# Altium integrated library TI Power Management Power Modules.IntLib: 831 symbols (part 29 of 44)
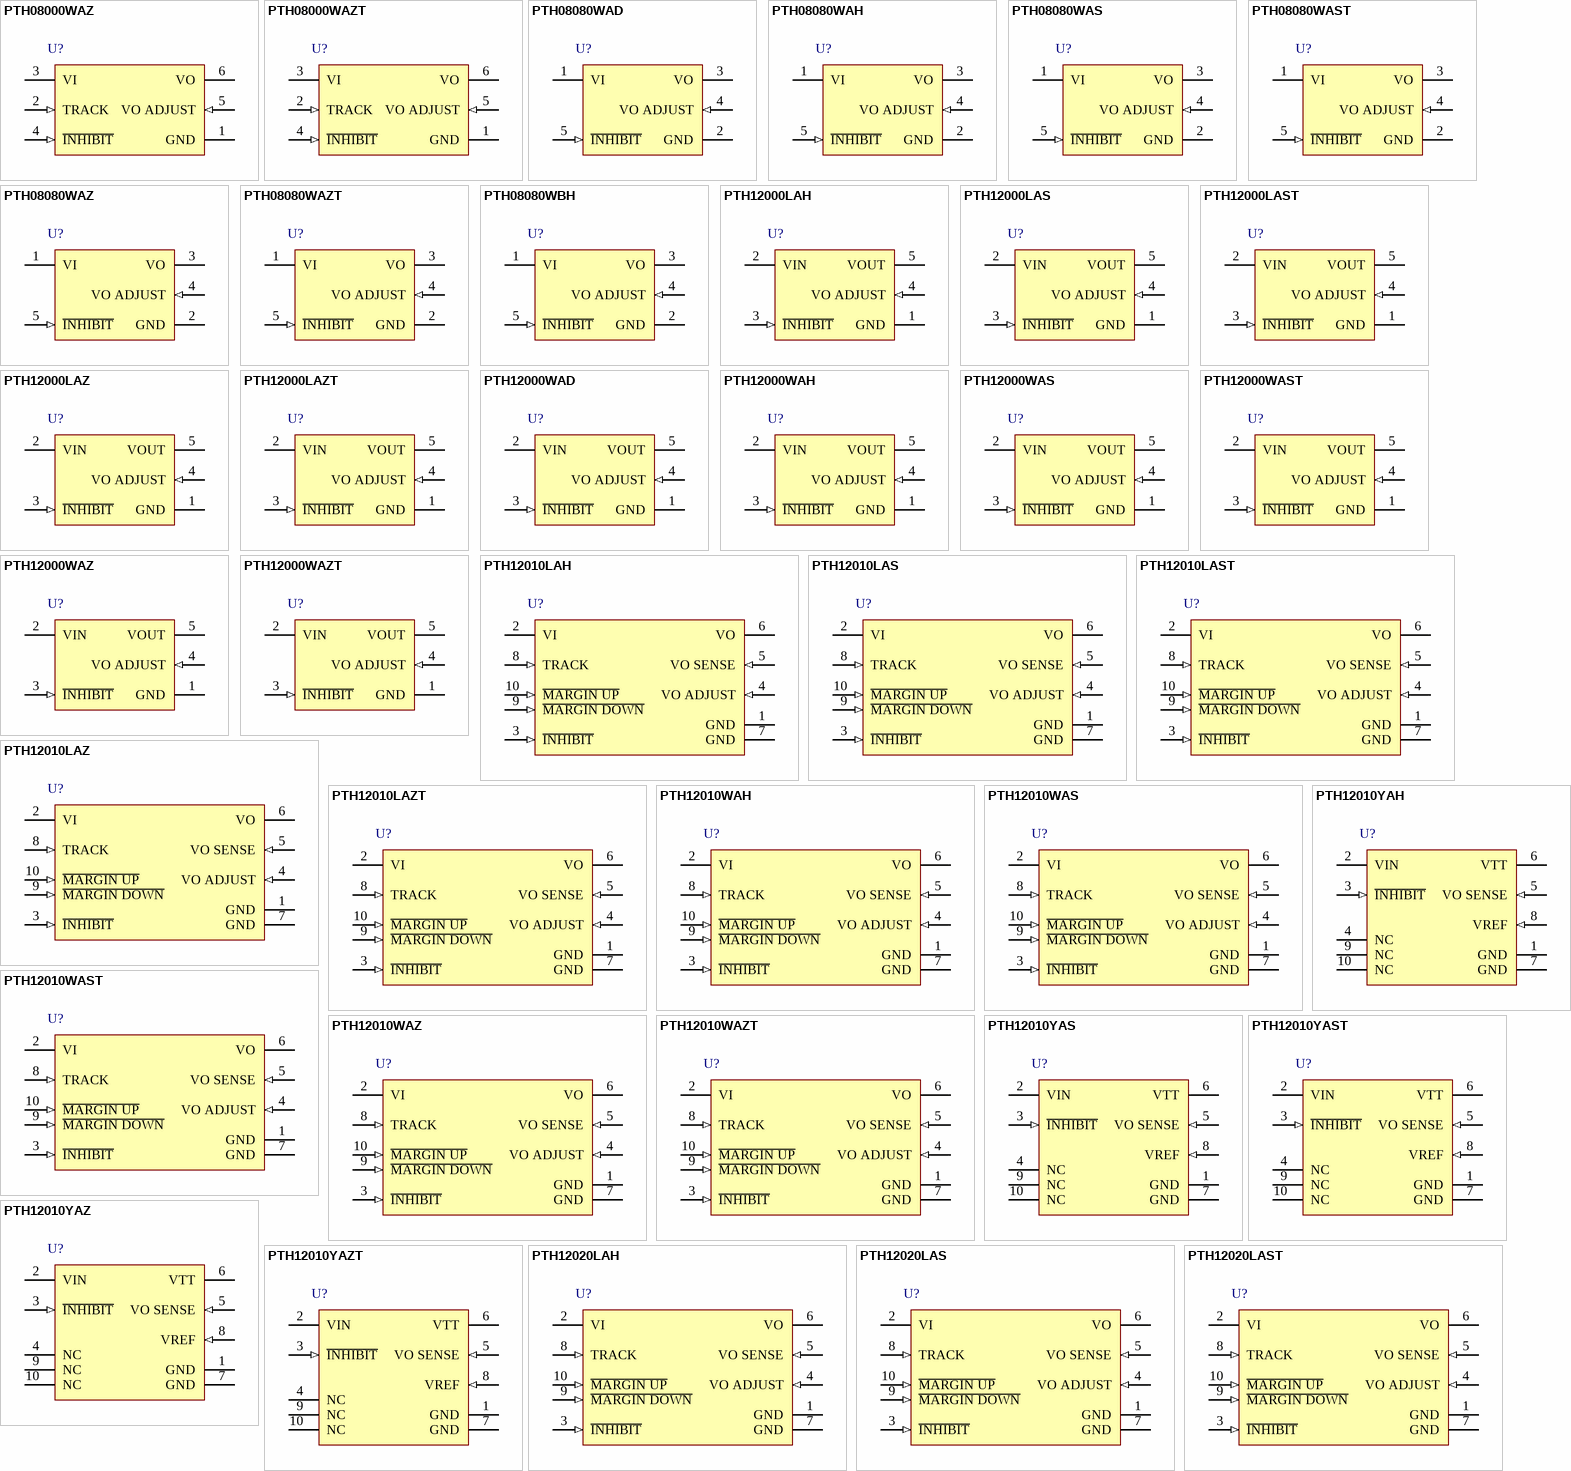
[diagram p51: symbols PTH08000WAZ to PTH12020LAST]

## PTH08080WAZT
designator U?
2.25 A, 4.5 to 18 V Input Wide Adjust Miniature Power Module, -40 to 85 degC, 5-pin Module (EUG5), Pb-Free (RoHS); Manufacturer: Texas Instruments; PartNumber: PTH08080WAZT; Iout(Max)(A): 2.25; Regulated Outputs(#): 1; SubFamily: Non-Isolated POL; Vin(Max)(V): 18; Vin(Min)(V): 4.5; VO Adjustable: TRUE; Vout(Max)(V): 5.5; Vout(Min)(V): 0.9; DatasheetVersion: SLTS235C; PackageVersion: 4206428/A; PackageReference: EUG5; PackageDescription: 5-Pin Plastic Special Shape, Body 12.7 x 15.24 mm; Supplier 1: Digi-Key; Supplier Part Number 1: 296-26311-2-ND; Supplier 2: Digi-Key; Supplier Part Number 2: 296-26311-1-ND; Supplier 3: Digi-Key; Supplier Part Number 3: 296-26311-6-ND; Supplier 4: Farnell; Supplier Part Number 4: 1180200; Supplier 5: Farnell; Supplier Part Number 5: 1180200RL; Supplier 6: Newark; Supplier Part Number 6: 26M2084; Supplier 7: Newark; Supplier Part Number 7: 37K0731; Supplier 8: Mouser; Supplier Part Number 8: 595-PTH08080WAZT; Eco-Plan: Pb-Free (RoHS); Mounting Technology: Surface Mount; ComponentLink1Description: Manufacturer URL; ComponentLink1URL: http://www.ti.com/; ComponentLink2Description: Datasheet; ComponentLink2URL: http://www.ti.com/general/docs/lit/getliterature.tsp?genericPartNumber=PTH08080W&fileType=pdf; ComponentLink3Description: Package Specification; ComponentLink3URL: http://www.ti.com/litv/pdf/mpds190; ComponentLink4Description: URL Link1; ComponentLink4URL: Samples URL:http://www.ti.com/product/pth08080w#samples
footprint TI-EUG5_V (Module, 5-Leads, Body 15.24x12.7mm)
pins: 1 VI (power) "The positive input voltage power node to the module, which is referenced to common GND.", 2 GND (power) "This is the common ground connection for the VI and VO power connections. It is also the 0-Vdc reference for the Inhibit and VO Adjust control inputs.", 3 VO (power) "The regulated positive power output with respect to the GND node.", 4 VO ADJUST (in) "A 1% resistor must be connected between this pin and GND (pin 1) to set the output voltage of the module higher than 0.9 V. If left open-circuit, the output voltage defaults to this value. The temperature stability of the (See Datasheet)", 5 ~{INHIBIT} (in) "The Inhibit pin is an open-collector/drain-negative logic input that is referenced to GND. Applying a low-level ground signal to this input disables the module's output. When the Inhibit control is active, the input current (See Datasheet)"

## PTH08080WBH
designator U?
2.25 A, 4.5 to 18 V Input Wide Adjust Miniature Power Module, -40 to 85 degC, 5-pin Module (EUF5), Pb-Free (RoHS); Manufacturer: Texas Instruments; PartNumber: PTH08080WBH; Iout(Max)(A): 2.25; Regulated Outputs(#): 1; SubFamily: Non-Isolated POL; Vin(Max)(V): 18; Vin(Min)(V): 4.5; VO Adjustable: TRUE; Vout(Max)(V): 5.5; Vout(Min)(V): 0.9; DatasheetVersion: SLTS235C; PackageVersion: 4206427/A; PackageReference: EUF5; PackageDescription: 5-Pin Plastic Special Shape, Body 12.7 x 15.24 mm; Supplier 1: Digi-Key; Supplier Part Number 1: 296-32716-ND; Supplier 2: Mouser; Supplier Part Number 2: 595-PTH08080WBH; Eco-Plan: Pb-Free (RoHS); Mounting Technology: Through Hole; ComponentLink1Description: Manufacturer URL; ComponentLink1URL: http://www.ti.com/; ComponentLink2Description: Datasheet; ComponentLink2URL: http://www.ti.com/general/docs/lit/getliterature.tsp?genericPartNumber=PTH08080W&fileType=pdf; ComponentLink3Description: Package Specification; ComponentLink3URL: http://www.ti.com/lit/ml/mpds189/mpds189.pdf; ComponentLink4Description: URL Link1; ComponentLink4URL: Samples URL:http://www.ti.com/product/tps55010#samples
footprint TI-EUF5_V (Module, 5-Leads, Body 15.24x12.7mm)
pins: 1 VI (power) "The positive input voltage power node to the module, which is referenced to common GND.", 2 GND (power) "This is the common ground connection for the VI and VO power connections. It is also the 0-Vdc reference for the Inhibit and VO Adjust control inputs.", 3 VO (power) "The regulated positive power output with respect to the GND node.", 4 VO ADJUST (in) "A 1% resistor must be connected between this pin and GND (pin 1) to set the output voltage of the module higher than 0.9 V. If left open-circuit, the output voltage defaults to this value. The temperature stability of the (See Datasheet)", 5 ~{INHIBIT} (in) "The Inhibit pin is an open-collector/drain-negative logic input that is referenced to GND. Applying a low-level ground signal to this input disables the module's output. When the Inhibit control is active, the input current (See Datasheet)"

## PTH12000LAH
designator U?
0.8 to 1.8 V, 6 A, 12 V Input Non-Isolated Wide Adjust Module, -40 to 85 degC, 5-pin Module (EUS5), Pb-Free (RoHS); Manufacturer: Texas Instruments; PartNumber: PTH12000LAH; Iout(Max)(A): 6; Regulated Outputs(#): 1; SubFamily: Non-Isolated POL; Vin(Max)(V): 13.2; Vin(Min)(V): 10.8; VO Adjustable: TRUE; Vout(Max)(V): 1.8; Vout(Min)(V): 0.8; DatasheetVersion: SLTS202E; PackageVersion: 4204990-2/C; PackageReference: EUS5; PackageDescription: 5-Pin Plastic Special Shape, Body 12.57 x 18.92 mm; Supplier 1: Digi-Key; Supplier Part Number 1: 296-20446-ND; Supplier 2: Newark; Supplier Part Number 2: 44J0220; Supplier 3: Mouser; Supplier Part Number 3: 595-PTH12000LAH; Eco-Plan: Pb-Free (RoHS); Mounting Technology: Through Hole; ComponentLink1Description: Manufacturer URL; ComponentLink1URL: http://www.ti.com/; ComponentLink2Description: Datasheet; ComponentLink2URL: http://www.ti.com/general/docs/lit/getliterature.tsp?genericPartNumber=PTH12000L&fileType=pdf; ComponentLink3Description: Package Specification; ComponentLink3URL: http://www.ti.com/litv/pdf/mpds139b; ComponentLink4Description: URL Link1; ComponentLink4URL: Samples URL:http://www.ti.com/product/pth12000l#samples
footprint TI-EUS5_V (5-Leads, Plastic Special Shape, Body 18.92x12.57mm)
pins: 1 GND (power) "This is the common ground connection for the‘Vin’ and ‘Vout’ power connections. It is also the 0 VDC reference for the ‘Inhibit’ and ‘Vo Adjust’ control input.", 2 VIN (power) "The positive input voltage power node to the module, which is referenced to common GND.", 3 ~{INHIBIT} (in) "The Inhibit pin is an open-collector/drain negative logic input that is referenced to GND. Applying a lowlevel ground signal to this input disables the module’s output and turns off the output voltage. When the Inhibit (See Datasheet)", 4 VO ADJUST (in) "A 0.1 W 1 % resistor must be directly connected between this pin and the GND pin to set the output voltage to a value higher than 0.9 V. The temperature stability of the resistor should be 100 ppm/degreesC (or better). The (See Datasheet)", 5 VOUT (power) "The regulated positive power output with respect to the GND node."

## PTH12000LAS
designator U?
0.8 to 1.8 V, 6 A, 12 V Input Non-Isolated Wide Adjust Module, -40 to 85 degC, 5-pin Module (EUT5); Manufacturer: Texas Instruments; PartNumber: PTH12000LAS; Eco-Plan: TBD; Iout(Max)(A): 6; Regulated Outputs(#): 1; SubFamily: Non-Isolated POL; Vin(Max)(V): 13.2; Vin(Min)(V): 10.8; VO Adjustable: TRUE; Vout(Max)(V): 1.8; Vout(Min)(V): 0.8; DatasheetVersion: SLTS202E; PackageVersion: 4204991-2/C; PackageReference: EUT5; PackageDescription: 5-Pin Plastic Special Shape, Body 12.57 x 18.92 mm; Supplier 1: Digi-Key; Supplier Part Number 1: 296-20447-ND; Supplier 2: Newark; Supplier Part Number 2: 44J0221; Supplier 3: Mouser; Supplier Part Number 3: 595-PTH12000LAS; Mounting Technology: Surface Mount; ComponentLink1Description: Manufacturer URL; ComponentLink1URL: http://www.ti.com/; ComponentLink2Description: Datasheet; ComponentLink2URL: http://www.ti.com/general/docs/lit/getliterature.tsp?genericPartNumber=PTH12000L&fileType=pdf; ComponentLink3Description: Package Specification; ComponentLink3URL: http://www.ti.com/lit/ml/mpds140b/mpds140b.pdf; ComponentLink4Description: URL Link1; ComponentLink4URL: Samples URL:http://www.ti.com/product/pth12000l#samples
footprint TI-EUT5_V (Module, 5-Leads, Body 18.92x12.57 mm)
pins: 1 GND (power) "This is the common ground connection for the‘Vin’ and ‘Vout’ power connections. It is also the 0 VDC reference for the ‘Inhibit’ and ‘Vo Adjust’ control input.", 2 VIN (power) "The positive input voltage power node to the module, which is referenced to common GND.", 3 ~{INHIBIT} (in) "The Inhibit pin is an open-collector/drain negative logic input that is referenced to GND. Applying a lowlevel ground signal to this input disables the module’s output and turns off the output voltage. When the Inhibit (See Datasheet)", 4 VO ADJUST (in) "A 0.1 W 1 % resistor must be directly connected between this pin and the GND pin to set the output voltage to a value higher than 0.9 V. The temperature stability of the resistor should be 100 ppm/degreesC (or better). The (See Datasheet)", 5 VOUT (power) "The regulated positive power output with respect to the GND node."

## PTH12000LAST
designator U?
0.8 to 1.8 V, 6 A, 12 V Input Non-Isolated Wide Adjust Module, -40 to 85 degC, 5-pin Module (EUT5); Manufacturer: Texas Instruments; PartNumber: PTH12000LAST; Eco-Plan: TBD; Iout(Max)(A): 6; Regulated Outputs(#): 1; SubFamily: Non-Isolated POL; Vin(Max)(V): 13.2; Vin(Min)(V): 10.8; VO Adjustable: TRUE; Vout(Max)(V): 1.8; Vout(Min)(V): 0.8; DatasheetVersion: SLTS202E; PackageVersion: 4204991-2/C; PackageReference: EUT5; PackageDescription: 5-Pin Plastic Special Shape, Body 12.57 x 18.92 mm; Supplier 1: Digi-Key; Supplier Part Number 1: PTH12000LAST-ND; Supplier 2: Mouser; Supplier Part Number 2: 595-PTH12000LAST; Mounting Technology: Surface Mount; ComponentLink1Description: Manufacturer URL; ComponentLink1URL: http://www.ti.com/; ComponentLink2Description: Datasheet; ComponentLink2URL: http://www.ti.com/general/docs/lit/getliterature.tsp?genericPartNumber=PTH12000L&fileType=pdf; ComponentLink3Description: Package Specification; ComponentLink3URL: http://www.ti.com/lit/ml/mpds140b/mpds140b.pdf; ComponentLink4Description: URL Link1; ComponentLink4URL: Samples URL:http://www.ti.com/product/pth12000l#samples
footprint TI-EUT5_V (Module, 5-Leads, Body 18.92x12.57 mm)
pins: 1 GND (power) "This is the common ground connection for the‘Vin’ and ‘Vout’ power connections. It is also the 0 VDC reference for the ‘Inhibit’ and ‘Vo Adjust’ control input.", 2 VIN (power) "The positive input voltage power node to the module, which is referenced to common GND.", 3 ~{INHIBIT} (in) "The Inhibit pin is an open-collector/drain negative logic input that is referenced to GND. Applying a lowlevel ground signal to this input disables the module’s output and turns off the output voltage. When the Inhibit (See Datasheet)", 4 VO ADJUST (in) "A 0.1 W 1 % resistor must be directly connected between this pin and the GND pin to set the output voltage to a value higher than 0.9 V. The temperature stability of the resistor should be 100 ppm/degreesC (or better). The (See Datasheet)", 5 VOUT (power) "The regulated positive power output with respect to the GND node."

## PTH12000LAZ
designator U?
0.8 to 1.8 V, 6 A, 12 V Input Non-Isolated Wide Adjust Module, -40 to 85 degC, 5-pin Module (EUT5), Pb-Free (RoHS); Manufacturer: Texas Instruments; PartNumber: PTH12000LAZ; Iout(Max)(A): 6; Regulated Outputs(#): 1; SubFamily: Non-Isolated POL; Vin(Max)(V): 13.2; Vin(Min)(V): 10.8; VO Adjustable: TRUE; Vout(Max)(V): 1.8; Vout(Min)(V): 0.8; DatasheetVersion: SLTS202E; PackageVersion: 4204991-2/C; PackageReference: EUT5; PackageDescription: 5-Pin Plastic Special Shape, Body 12.57 x 18.92 mm; Supplier 1: Digi-Key; Supplier Part Number 1: 296-20448-ND; Supplier 2: Newark; Supplier Part Number 2: 37K0732; Supplier 3: Mouser; Supplier Part Number 3: 595-PTH12000LAZ; Eco-Plan: Pb-Free (RoHS); Mounting Technology: Surface Mount; ComponentLink1Description: Manufacturer URL; ComponentLink1URL: http://www.ti.com/; ComponentLink2Description: Datasheet; ComponentLink2URL: http://www.ti.com/general/docs/lit/getliterature.tsp?genericPartNumber=PTH12000L&fileType=pdf; ComponentLink3Description: Package Specification; ComponentLink3URL: http://www.ti.com/lit/ml/mpds140b/mpds140b.pdf; ComponentLink4Description: URL Link1; ComponentLink4URL: Samples URL:http://www.ti.com/product/pth12000l#samples
footprint TI-EUT5_V (Module, 5-Leads, Body 18.92x12.57 mm)
pins: 1 GND (power) "This is the common ground connection for the‘Vin’ and ‘Vout’ power connections. It is also the 0 VDC reference for the ‘Inhibit’ and ‘Vo Adjust’ control input.", 2 VIN (power) "The positive input voltage power node to the module, which is referenced to common GND.", 3 ~{INHIBIT} (in) "The Inhibit pin is an open-collector/drain negative logic input that is referenced to GND. Applying a lowlevel ground signal to this input disables the module’s output and turns off the output voltage. When the Inhibit (See Datasheet)", 4 VO ADJUST (in) "A 0.1 W 1 % resistor must be directly connected between this pin and the GND pin to set the output voltage to a value higher than 0.9 V. The temperature stability of the resistor should be 100 ppm/degreesC (or better). The (See Datasheet)", 5 VOUT (power) "The regulated positive power output with respect to the GND node."

## PTH12000LAZT
designator U?
0.8 to 1.8 V, 6 A, 12 V Input Non-Isolated Wide Adjust Module, -40 to 85 degC, 5-pin Module (EUT5), Pb-Free (RoHS); Manufacturer: Texas Instruments; PartNumber: PTH12000LAZT; Iout(Max)(A): 6; Regulated Outputs(#): 1; SubFamily: Non-Isolated POL; Vin(Max)(V): 13.2; Vin(Min)(V): 10.8; VO Adjustable: TRUE; Vout(Max)(V): 1.8; Vout(Min)(V): 0.8; DatasheetVersion: SLTS202E; PackageVersion: 4204991-2/C; PackageReference: EUT5; PackageDescription: 5-Pin Plastic Special Shape, Body 12.57 x 18.92 mm; Supplier 1: Digi-Key; Supplier Part Number 1: PTH12000LAZT-ND; Supplier 2: Newark; Supplier Part Number 2: 37K0733; Supplier 3: Mouser; Supplier Part Number 3: 595-PTH12000LAZT; Eco-Plan: Pb-Free (RoHS); Mounting Technology: Surface Mount; ComponentLink1Description: Manufacturer URL; ComponentLink1URL: http://www.ti.com/; ComponentLink2Description: Datasheet; ComponentLink2URL: http://www.ti.com/general/docs/lit/getliterature.tsp?genericPartNumber=PTH12000L&fileType=pdf; ComponentLink3Description: Package Specification; ComponentLink3URL: http://www.ti.com/lit/ml/mpds140b/mpds140b.pdf; ComponentLink4Description: URL Link1; ComponentLink4URL: Samples URL:http://www.ti.com/product/pth12000l#samples
footprint TI-EUT5_V (Module, 5-Leads, Body 18.92x12.57 mm)
pins: 1 GND (power) "This is the common ground connection for the‘Vin’ and ‘Vout’ power connections. It is also the 0 VDC reference for the ‘Inhibit’ and ‘Vo Adjust’ control input.", 2 VIN (power) "The positive input voltage power node to the module, which is referenced to common GND.", 3 ~{INHIBIT} (in) "The Inhibit pin is an open-collector/drain negative logic input that is referenced to GND. Applying a lowlevel ground signal to this input disables the module’s output and turns off the output voltage. When the Inhibit (See Datasheet)", 4 VO ADJUST (in) "A 0.1 W 1 % resistor must be directly connected between this pin and the GND pin to set the output voltage to a value higher than 0.9 V. The temperature stability of the resistor should be 100 ppm/degreesC (or better). The (See Datasheet)", 5 VOUT (power) "The regulated positive power output with respect to the GND node."

## PTH12000WAD
designator U?
1.2 to 5.5 V 6 A, 12 V Input Non-Isolated Wide Adjust Module, -40 to 85 degC, 5-pin Module (EUS5), Pb-Free (RoHS); Manufacturer: Texas Instruments; PartNumber: PTH12000WAD; Iout(Max)(A): 6; Regulated Outputs(#): 1; SubFamily: Non-Isolated POL; Vin(Max)(V): 13.2; Vin(Min)(V): 10.8; VO Adjustable: TRUE; Vout(Max)(V): 5.5; Vout(Min)(V): 1.2; DatasheetVersion: SLTS202E; PackageVersion: 4204990-2/C; PackageReference: EUS5; PackageDescription: 5-Pin Plastic Special Shape, Body 12.57 x 18.92 mm; Supplier 1: Digi-Key; Supplier Part Number 1: 296-32717-ND; Supplier 2: Farnell; Supplier Part Number 2: 1103297; Supplier 3: Newark; Supplier Part Number 3: 97K7869; Supplier 4: Newark; Supplier Part Number 4: 57K1190; Supplier 5: Mouser; Supplier Part Number 5: 595-PTH12000WAD; Eco-Plan: Pb-Free (RoHS); Mounting Technology: Through Hole; ComponentLink1Description: Manufacturer URL; ComponentLink1URL: http://www.ti.com/; ComponentLink2Description: Datasheet; ComponentLink2URL: http://www.ti.com/general/docs/lit/getliterature.tsp?genericPartNumber=PTH12000W&fileType=pdf; ComponentLink3Description: Package Specification; ComponentLink3URL: http://www.ti.com/litv/pdf/mpds139b; ComponentLink4Description: URL Link1; ComponentLink4URL: Samples URL:http://www.ti.com/product/pth12000w#samples
footprint TI-EUS5_V (5-Leads, Plastic Special Shape, Body 18.92x12.57mm)
pins: 1 GND (power) "This is the common ground connection for the‘Vin’ and ‘Vout’ power connections. It is also the 0 VDC reference for the ‘Inhibit’ and ‘Vo Adjust’ control input.", 2 VIN (power) "The positive input voltage power node to the module, which is referenced to common GND.", 3 ~{INHIBIT} (in) "The Inhibit pin is an open-collector/drain negative logic input that is referenced to GND. Applying a lowlevel ground signal to this input disables the module’s output and turns off the output voltage. When the Inhibit (See Datasheet)", 4 VO ADJUST (in) "A 0.1 W 1 % resistor must be directly connected between this pin and the GND pin to set the output voltage to a value higher than 0.9 V. The temperature stability of the resistor should be 100 ppm/degreesC (or better). The (See Datasheet)", 5 VOUT (power) "The regulated positive power output with respect to the GND node."

## PTH12000WAH
designator U?
1.2 to 5.5 V 6 A, 12 V Input Non-Isolated Wide Adjust Module, -40 to 85 degC, 5-pin Module (EUS5), Pb-Free (RoHS); Manufacturer: Texas Instruments; PartNumber: PTH12000WAH; Iout(Max)(A): 6; Regulated Outputs(#): 1; SubFamily: Non-Isolated POL; Vin(Max)(V): 13.2; Vin(Min)(V): 10.8; VO Adjustable: TRUE; Vout(Max)(V): 5.5; Vout(Min)(V): 1.2; DatasheetVersion: SLTS202E; PackageVersion: 4204990-2/C; PackageReference: EUS5; PackageDescription: 5-Pin Plastic Special Shape, Body 12.57 x 18.92 mm; Supplier 1: Digi-Key; Supplier Part Number 1: 296-20449-ND; Supplier 2: Farnell; Supplier Part Number 2: 1212257; Supplier 3: Newark; Supplier Part Number 3: 86H7984; Supplier 4: Mouser; Supplier Part Number 4: 595-PTH12000WAH; Eco-Plan: Pb-Free (RoHS); Mounting Technology: Through Hole; ComponentLink1Description: Manufacturer URL; ComponentLink1URL: http://www.ti.com/; ComponentLink2Description: Datasheet; ComponentLink2URL: http://www.ti.com/general/docs/lit/getliterature.tsp?genericPartNumber=PTH12000W&fileType=pdf; ComponentLink3Description: Package Specification; ComponentLink3URL: http://www.ti.com/litv/pdf/mpds139b; ComponentLink4Description: URL Link1; ComponentLink4URL: Samples URL:http://www.ti.com/product/pth12000w#samples
footprint TI-EUS5_V (5-Leads, Plastic Special Shape, Body 18.92x12.57mm)
pins: 1 GND (power) "This is the common ground connection for the‘Vin’ and ‘Vout’ power connections. It is also the 0 VDC reference for the ‘Inhibit’ and ‘Vo Adjust’ control input.", 2 VIN (power) "The positive input voltage power node to the module, which is referenced to common GND.", 3 ~{INHIBIT} (in) "The Inhibit pin is an open-collector/drain negative logic input that is referenced to GND. Applying a lowlevel ground signal to this input disables the module’s output and turns off the output voltage. When the Inhibit (See Datasheet)", 4 VO ADJUST (in) "A 0.1 W 1 % resistor must be directly connected between this pin and the GND pin to set the output voltage to a value higher than 0.9 V. The temperature stability of the resistor should be 100 ppm/degreesC (or better). The (See Datasheet)", 5 VOUT (power) "The regulated positive power output with respect to the GND node."

## PTH12000WAS
designator U?
1.2 to 5.5 V 6 A, 12 V Input Non-Isolated Wide Adjust Module, -40 to 85 degC, 5-pin Module (EUT5); Manufacturer: Texas Instruments; PartNumber: PTH12000WAS; Eco-Plan: TBD; Iout(Max)(A): 6; Regulated Outputs(#): 1; SubFamily: Non-Isolated POL; Vin(Max)(V): 13.2; Vin(Min)(V): 10.8; VO Adjustable: TRUE; Vout(Max)(V): 5.5; Vout(Min)(V): 1.2; DatasheetVersion: SLTS202E; PackageVersion: 4204991-2/C; PackageReference: EUT5; PackageDescription: 5-Pin Plastic Special Shape, Body 12.57 x 18.92 mm; Supplier 1: Digi-Key; Supplier Part Number 1: 296-20450-ND; Supplier 2: Newark; Supplier Part Number 2: 87H2507; Supplier 3: Mouser; Supplier Part Number 3: 595-PTH12000WAS; Mounting Technology: Surface Mount; ComponentLink1Description: Manufacturer URL; ComponentLink1URL: http://www.ti.com/; ComponentLink2Description: Datasheet; ComponentLink2URL: http://www.ti.com/general/docs/lit/getliterature.tsp?genericPartNumber=PTH12000W&fileType=pdf; ComponentLink3Description: Package Specification; ComponentLink3URL: http://www.ti.com/lit/ml/mpds140b/mpds140b.pdf; ComponentLink4Description: URL Link1; ComponentLink4URL: Samples URL:http://www.ti.com/product/pth12000w#samples
footprint TI-EUT5_V (Module, 5-Leads, Body 18.92x12.57 mm)
pins: 1 GND (power) "This is the common ground connection for the‘Vin’ and ‘Vout’ power connections. It is also the 0 VDC reference for the ‘Inhibit’ and ‘Vo Adjust’ control input.", 2 VIN (power) "The positive input voltage power node to the module, which is referenced to common GND.", 3 ~{INHIBIT} (in) "The Inhibit pin is an open-collector/drain negative logic input that is referenced to GND. Applying a lowlevel ground signal to this input disables the module’s output and turns off the output voltage. When the Inhibit (See Datasheet)", 4 VO ADJUST (in) "A 0.1 W 1 % resistor must be directly connected between this pin and the GND pin to set the output voltage to a value higher than 0.9 V. The temperature stability of the resistor should be 100 ppm/degreesC (or better). The (See Datasheet)", 5 VOUT (power) "The regulated positive power output with respect to the GND node."

## PTH12000WAST
designator U?
1.2 to 5.5 V 6 A, 12 V Input Non-Isolated Wide Adjust Module, -40 to 85 degC, 5-pin Module (EUT5); Manufacturer: Texas Instruments; PartNumber: PTH12000WAST; Eco-Plan: TBD; Iout(Max)(A): 6; Regulated Outputs(#): 1; SubFamily: Non-Isolated POL; Vin(Max)(V): 13.2; Vin(Min)(V): 10.8; VO Adjustable: TRUE; Vout(Max)(V): 5.5; Vout(Min)(V): 1.2; DatasheetVersion: SLTS202E; PackageVersion: 4204991-2/C; PackageReference: EUT5; PackageDescription: 5-Pin Plastic Special Shape, Body 12.57 x 18.92 mm; Supplier 1: Digi-Key; Supplier Part Number 1: PTH12000WAST-ND; Supplier 2: Newark; Supplier Part Number 2: 01J0645; Supplier 3: Mouser; Supplier Part Number 3: 595-PTH12000WAST; Mounting Technology: Surface Mount; ComponentLink1Description: Manufacturer URL; ComponentLink1URL: http://www.ti.com/; ComponentLink2Description: Datasheet; ComponentLink2URL: http://www.ti.com/general/docs/lit/getliterature.tsp?genericPartNumber=PTH12000W&fileType=pdf; ComponentLink3Description: Package Specification; ComponentLink3URL: http://www.ti.com/lit/ml/mpds140b/mpds140b.pdf; ComponentLink4Description: URL Link1; ComponentLink4URL: Samples URL:http://www.ti.com/product/pth12000w#samples
footprint TI-EUT5_V (Module, 5-Leads, Body 18.92x12.57 mm)
pins: 1 GND (power) "This is the common ground connection for the‘Vin’ and ‘Vout’ power connections. It is also the 0 VDC reference for the ‘Inhibit’ and ‘Vo Adjust’ control input.", 2 VIN (power) "The positive input voltage power node to the module, which is referenced to common GND.", 3 ~{INHIBIT} (in) "The Inhibit pin is an open-collector/drain negative logic input that is referenced to GND. Applying a lowlevel ground signal to this input disables the module’s output and turns off the output voltage. When the Inhibit (See Datasheet)", 4 VO ADJUST (in) "A 0.1 W 1 % resistor must be directly connected between this pin and the GND pin to set the output voltage to a value higher than 0.9 V. The temperature stability of the resistor should be 100 ppm/degreesC (or better). The (See Datasheet)", 5 VOUT (power) "The regulated positive power output with respect to the GND node."

## PTH12000WAZ
designator U?
1.2 to 5.5 V 6 A, 12 V Input Non-Isolated Wide Adjust Module, -40 to 85 degC, 5-pin Module (EUT5), Pb-Free (RoHS); Manufacturer: Texas Instruments; PartNumber: PTH12000WAZ; Iout(Max)(A): 6; Regulated Outputs(#): 1; SubFamily: Non-Isolated POL; Vin(Max)(V): 13.2; Vin(Min)(V): 10.8; VO Adjustable: TRUE; Vout(Max)(V): 5.5; Vout(Min)(V): 1.2; DatasheetVersion: SLTS202E; PackageVersion: 4204991-2/C; PackageReference: EUT5; PackageDescription: 5-Pin Plastic Special Shape, Body 12.57 x 18.92 mm; Supplier 1: Digi-Key; Supplier Part Number 1: 296-19754-ND; Supplier 2: Farnell; Supplier Part Number 2: 1103298; Supplier 3: Newark; Supplier Part Number 3: 37K0734; Supplier 4: Mouser; Supplier Part Number 4: 595-PTH12000WAZ; Eco-Plan: Pb-Free (RoHS); Mounting Technology: Surface Mount; ComponentLink1Description: Manufacturer URL; ComponentLink1URL: http://www.ti.com/; ComponentLink2Description: Datasheet; ComponentLink2URL: http://www.ti.com/general/docs/lit/getliterature.tsp?genericPartNumber=PTH12000W&fileType=pdf; ComponentLink3Description: Package Specification; ComponentLink3URL: http://www.ti.com/lit/ml/mpds140b/mpds140b.pdf; ComponentLink4Description: URL Link1; ComponentLink4URL: Samples URL:http://www.ti.com/product/pth12000w#samples
footprint TI-EUT5_V (Module, 5-Leads, Body 18.92x12.57 mm)
pins: 1 GND (power) "This is the common ground connection for the‘Vin’ and ‘Vout’ power connections. It is also the 0 VDC reference for the ‘Inhibit’ and ‘Vo Adjust’ control input.", 2 VIN (power) "The positive input voltage power node to the module, which is referenced to common GND.", 3 ~{INHIBIT} (in) "The Inhibit pin is an open-collector/drain negative logic input that is referenced to GND. Applying a lowlevel ground signal to this input disables the module’s output and turns off the output voltage. When the Inhibit (See Datasheet)", 4 VO ADJUST (in) "A 0.1 W 1 % resistor must be directly connected between this pin and the GND pin to set the output voltage to a value higher than 0.9 V. The temperature stability of the resistor should be 100 ppm/degreesC (or better). The (See Datasheet)", 5 VOUT (power) "The regulated positive power output with respect to the GND node."

## PTH12000WAZT
designator U?
1.2 to 5.5 V 6 A, 12 V Input Non-Isolated Wide Adjust Module, -40 to 85 degC, 5-pin Module (EUT5), Pb-Free (RoHS); Manufacturer: Texas Instruments; PartNumber: PTH12000WAZT; Iout(Max)(A): 6; Regulated Outputs(#): 1; SubFamily: Non-Isolated POL; Vin(Max)(V): 13.2; Vin(Min)(V): 10.8; VO Adjustable: TRUE; Vout(Max)(V): 5.5; Vout(Min)(V): 1.2; DatasheetVersion: SLTS202E; PackageVersion: 4204991-2/C; PackageReference: EUT5; PackageDescription: 5-Pin Plastic Special Shape, Body 12.57 x 18.92 mm; Supplier 1: Digi-Key; Supplier Part Number 1: PTH12000WAZT-ND; Supplier 2: Newark; Supplier Part Number 2: 37K0735; Supplier 3: Mouser; Supplier Part Number 3: 595-PTH12000WAZT; Eco-Plan: Pb-Free (RoHS); Mounting Technology: Surface Mount; ComponentLink1Description: Manufacturer URL; ComponentLink1URL: http://www.ti.com/; ComponentLink2Description: Datasheet; ComponentLink2URL: http://www.ti.com/general/docs/lit/getliterature.tsp?genericPartNumber=PTH12000W&fileType=pdf; ComponentLink3Description: Package Specification; ComponentLink3URL: http://www.ti.com/lit/ml/mpds140b/mpds140b.pdf; ComponentLink4Description: URL Link1; ComponentLink4URL: Samples URL:http://www.ti.com/product/tps55010#samples
footprint TI-EUT5_V (Module, 5-Leads, Body 18.92x12.57 mm)
pins: 1 GND (power) "This is the common ground connection for the‘Vin’ and ‘Vout’ power connections. It is also the 0 VDC reference for the ‘Inhibit’ and ‘Vo Adjust’ control input.", 2 VIN (power) "The positive input voltage power node to the module, which is referenced to common GND.", 3 ~{INHIBIT} (in) "The Inhibit pin is an open-collector/drain negative logic input that is referenced to GND. Applying a lowlevel ground signal to this input disables the module’s output and turns off the output voltage. When the Inhibit (See Datasheet)", 4 VO ADJUST (in) "A 0.1 W 1 % resistor must be directly connected between this pin and the GND pin to set the output voltage to a value higher than 0.9 V. The temperature stability of the resistor should be 100 ppm/degreesC (or better). The (See Datasheet)", 5 VOUT (power) "The regulated positive power output with respect to the GND node."

## PTH12010LAH
designator U?
0.8 to 1.8 V, 12 A, 12 V Input Non-Isolated Wide Adjust Module, -40 to 85 degC, 10-pin Module (EUH10), Pb-Free (RoHS); Manufacturer: Texas Instruments; PartNumber: PTH12010LAH; Iout(Max)(A): 12; Regulated Outputs(#): 1; SubFamily: Non-Isolated POL; Vin(Max)(V): 13.2; Vin(Min)(V): 10.8; VO Adjustable: TRUE; Vout(Max)(V): 1.8; Vout(Min)(V): 0.8; DatasheetVersion: SLTS205G; PackageVersion: 4204984-3/E; PackageReference: EUH10; PackageDescription: 10-Pin Plastic Special Shape, Body 15.75 x 34.8 mm; Supplier 1: Digi-Key; Supplier Part Number 1: 296-20451-ND; Supplier 2: Newark; Supplier Part Number 2: 44J0223; Supplier 3: Mouser; Supplier Part Number 3: 595-PTH12010LAH; Eco-Plan: Pb-Free (RoHS); Mounting Technology: Through Hole; ComponentLink1Description: Manufacturer URL; ComponentLink1URL: http://www.ti.com/; ComponentLink2Description: Datasheet; ComponentLink2URL: http://www.ti.com/general/docs/lit/getliterature.tsp?genericPartNumber=PTH12010L&fileType=pdf; ComponentLink3Description: Package Specification; ComponentLink3URL: http://www.ti.com/litv/pdf/mpds130d; ComponentLink4Description: URL Link1; ComponentLink4URL: Samples URL:http://www.ti.com/product/pth12010l#samples
footprint TI-EUH10_V (Module, 10-Leads, Body 34.8x15.75 mm)
pins: 1 GND (power) "This is the common ground connection for the Vin and Vout power connections. It is also the 0 VDC reference for the control inputs.", 2 VI (power) "The positive input voltage power node to the module, which is referenced to common GND.", 3 ~{INHIBIT} (in) "The Inhibit pin is an open-collector/drain negative logic input that is referenced to GND. Applying a lowlevel ground signal to this input disables the module’s output and turns off the output voltage. When the Inhibit (See Datasheet)", 4 VO ADJUST (in) "A 0.1 W 1 % resistor must be directly connected between this pin and pin 7 (GND) to set the output voltage to a value higher than 0.8 V. The temperature stability of the resistor should be 100 ppm/degreesC (or better). The (See Datasheet)", 5 VO SENSE (in) "The sense input allows the regulation circuit to compensate for voltage drop between the module and the load. For optimal voltage accuracy Vo Sense should be connected to Vout. It can also be left disconnected.", 6 VO (power) "The regulated positive power output with respect to the GND node.", 7 GND (power) "This is the common ground connection for the Vin and Vout power connections. It is also the 0 VDC reference for the control inputs.", 8 TRACK (in) "This is an analog control input that enables the output voltage to follow an external voltage. This pin becomes active typically 20 ms after the input voltage has been applied, and allows direct control of the output voltage (See Datasheet)", 9 ~{MARGIN DOWN} (in) "When this input is asserted to GND, the output voltage is decreased by 5% from the nominal. The input requires an open-collector (open-drain) interface. It is not TTL compatible. A lower percent change can be accomodated (See Datasheet)", 10 ~{MARGIN UP} (in) "When this input is asserted to GND, the output voltage is increased by 5%. The input requires an open-collector (open-drain) interface. It is not TTL compatible. The percent change can be reduced with a series resistor. If (See Datasheet)"

## PTH12010LAS
designator U?
0.8 to 1.8 V, 12 A, 12 V Input Non-Isolated Wide Adjust Module, -40 to 85 degC, 10-pin Module (EUJ10); Manufacturer: Texas Instruments; PartNumber: PTH12010LAS; Eco-Plan: TBD; Iout(Max)(A): 12; Regulated Outputs(#): 1; SubFamily: Non-Isolated POL; Vin(Max)(V): 13.2; Vin(Min)(V): 10.8; VO Adjustable: TRUE; Vout(Max)(V): 1.8; Vout(Min)(V): 0.8; DatasheetVersion: SLTS205G; PackageVersion: 4204985-3/E; PackageReference: EUJ10; PackageDescription: 10-Pin Plastic Special Shape, Body 15.75 x 34.8 mm; Supplier 1: Digi-Key; Supplier Part Number 1: 296-20452-ND; Supplier 2: Newark; Supplier Part Number 2: 44J0224; Supplier 3: Mouser; Supplier Part Number 3: 595-PTH12010LAS; Mounting Technology: Surface Mount; ComponentLink1Description: Manufacturer URL; ComponentLink1URL: http://www.ti.com/; ComponentLink2Description: Datasheet; ComponentLink2URL: http://www.ti.com/general/docs/lit/getliterature.tsp?genericPartNumber=PTH12010L&fileType=pdf; ComponentLink3Description: Package Specification; ComponentLink3URL: http://www.ti.com/lit/ml/mpds136d/mpds136d.pdf; ComponentLink4Description: URL Link1; ComponentLink4URL: Samples URL:http://www.ti.com/product/pth12010l#samples
footprint TI-EUJ10_V (10-Leads Double Sided Module, Body 34.8x15.75mm)
pins: 1 GND (power) "This is the common ground connection for the Vin and Vout power connections. It is also the 0 VDC reference for the control inputs.", 2 VI (power) "The positive input voltage power node to the module, which is referenced to common GND.", 3 ~{INHIBIT} (in) "The Inhibit pin is an open-collector/drain negative logic input that is referenced to GND. Applying a lowlevel ground signal to this input disables the module’s output and turns off the output voltage. When the Inhibit (See Datasheet)", 4 VO ADJUST (in) "A 0.1 W 1 % resistor must be directly connected between this pin and pin 7 (GND) to set the output voltage to a value higher than 0.8 V. The temperature stability of the resistor should be 100 ppm/degreesC (or better). The (See Datasheet)", 5 VO SENSE (in) "The sense input allows the regulation circuit to compensate for voltage drop between the module and the load. For optimal voltage accuracy Vo Sense should be connected to Vout. It can also be left disconnected.", 6 VO (power) "The regulated positive power output with respect to the GND node.", 7 GND (power) "This is the common ground connection for the Vin and Vout power connections. It is also the 0 VDC reference for the control inputs.", 8 TRACK (in) "This is an analog control input that enables the output voltage to follow an external voltage. This pin becomes active typically 20 ms after the input voltage has been applied, and allows direct control of the output voltage (See Datasheet)", 9 ~{MARGIN DOWN} (in) "When this input is asserted to GND, the output voltage is decreased by 5% from the nominal. The input requires an open-collector (open-drain) interface. It is not TTL compatible. A lower percent change can be accomodated (See Datasheet)", 10 ~{MARGIN UP} (in) "When this input is asserted to GND, the output voltage is increased by 5%. The input requires an open-collector (open-drain) interface. It is not TTL compatible. The percent change can be reduced with a series resistor. If (See Datasheet)"

## PTH12010LAST
designator U?
0.8 to 1.8 V, 12 A, 12 V Input Non-Isolated Wide Adjust Module, -40 to 85 degC, 10-pin Module (EUJ10); Manufacturer: Texas Instruments; PartNumber: PTH12010LAST; Eco-Plan: TBD; Iout(Max)(A): 12; Regulated Outputs(#): 1; SubFamily: Non-Isolated POL; Vin(Max)(V): 13.2; Vin(Min)(V): 10.8; VO Adjustable: TRUE; Vout(Max)(V): 1.8; Vout(Min)(V): 0.8; DatasheetVersion: SLTS205G; PackageVersion: 4204985-3/E; PackageReference: EUJ10; PackageDescription: 10-Pin Plastic Special Shape, Body 15.75 x 34.8 mm; Supplier 1: Digi-Key; Supplier Part Number 1: PTH12010LAST-ND; Supplier 2: Newark; Supplier Part Number 2: 44J0225; Supplier 3: Mouser; Supplier Part Number 3: 595-PTH12010LAST; Mounting Technology: Surface Mount; ComponentLink1Description: Manufacturer URL; ComponentLink1URL: http://www.ti.com/; ComponentLink2Description: Datasheet; ComponentLink2URL: http://www.ti.com/general/docs/lit/getliterature.tsp?genericPartNumber=PTH12010L&fileType=pdf; ComponentLink3Description: Package Specification; ComponentLink3URL: http://www.ti.com/lit/ml/mpds136d/mpds136d.pdf; ComponentLink4Description: URL Link1; ComponentLink4URL: Samples URL:http://www.ti.com/product/pth12010l#samples
footprint TI-EUJ10_V (10-Leads Double Sided Module, Body 34.8x15.75mm)
pins: 1 GND (power) "This is the common ground connection for the Vin and Vout power connections. It is also the 0 VDC reference for the control inputs.", 2 VI (power) "The positive input voltage power node to the module, which is referenced to common GND.", 3 ~{INHIBIT} (in) "The Inhibit pin is an open-collector/drain negative logic input that is referenced to GND. Applying a lowlevel ground signal to this input disables the module’s output and turns off the output voltage. When the Inhibit (See Datasheet)", 4 VO ADJUST (in) "A 0.1 W 1 % resistor must be directly connected between this pin and pin 7 (GND) to set the output voltage to a value higher than 0.8 V. The temperature stability of the resistor should be 100 ppm/degreesC (or better). The (See Datasheet)", 5 VO SENSE (in) "The sense input allows the regulation circuit to compensate for voltage drop between the module and the load. For optimal voltage accuracy Vo Sense should be connected to Vout. It can also be left disconnected.", 6 VO (power) "The regulated positive power output with respect to the GND node.", 7 GND (power) "This is the common ground connection for the Vin and Vout power connections. It is also the 0 VDC reference for the control inputs.", 8 TRACK (in) "This is an analog control input that enables the output voltage to follow an external voltage. This pin becomes active typically 20 ms after the input voltage has been applied, and allows direct control of the output voltage (See Datasheet)", 9 ~{MARGIN DOWN} (in) "When this input is asserted to GND, the output voltage is decreased by 5% from the nominal. The input requires an open-collector (open-drain) interface. It is not TTL compatible. A lower percent change can be accomodated (See Datasheet)", 10 ~{MARGIN UP} (in) "When this input is asserted to GND, the output voltage is increased by 5%. The input requires an open-collector (open-drain) interface. It is not TTL compatible. The percent change can be reduced with a series resistor. If (See Datasheet)"

## PTH12010LAZ
designator U?
0.8 to 1.8 V, 12 A, 12 V Input Non-Isolated Wide Adjust Module, -40 to 85 degC, 10-pin Module (EUJ10), Pb-Free (RoHS); Manufacturer: Texas Instruments; PartNumber: PTH12010LAZ; Iout(Max)(A): 12; Regulated Outputs(#): 1; SubFamily: Non-Isolated POL; Vin(Max)(V): 13.2; VO Adjustable: TRUE; Vout(Max)(V): 1.8; Vout(Min)(V): 0.8; DatasheetVersion: SLTS205G; PackageVersion: 4204985-3/E; PackageReference: EUJ10; PackageDescription: 10-Pin Plastic Special Shape, Body 15.75 x 34.8 mm; Supplier 1: Digi-Key; Supplier Part Number 1: 296-20453-ND; Supplier 2: Newark; Supplier Part Number 2: 37K0736; Supplier 3: Mouser; Supplier Part Number 3: 595-PTH12010LAZ; Eco-Plan: Pb-Free (RoHS); Vin(Min)(V): 13.2; Mounting Technology: Surface Mount; ComponentLink1Description: Manufacturer URL; ComponentLink1URL: http://www.ti.com/; ComponentLink2Description: Datasheet; ComponentLink2URL: http://www.ti.com/general/docs/lit/getliterature.tsp?genericPartNumber=PTH12010L&fileType=pdf; ComponentLink3Description: Package Specification; ComponentLink3URL: http://www.ti.com/lit/ml/mpds136d/mpds136d.pdf; ComponentLink4Description: URL Link1; ComponentLink4URL: Samples URL:http://www.ti.com/product/pth12010l#samples
footprint TI-EUJ10_V (10-Leads Double Sided Module, Body 34.8x15.75mm)
pins: 1 GND (power) "This is the common ground connection for the Vin and Vout power connections. It is also the 0 VDC reference for the control inputs.", 2 VI (power) "The positive input voltage power node to the module, which is referenced to common GND.", 3 ~{INHIBIT} (in) "The Inhibit pin is an open-collector/drain negative logic input that is referenced to GND. Applying a lowlevel ground signal to this input disables the module’s output and turns off the output voltage. When the Inhibit (See Datasheet)", 4 VO ADJUST (in) "A 0.1 W 1 % resistor must be directly connected between this pin and pin 7 (GND) to set the output voltage to a value higher than 0.8 V. The temperature stability of the resistor should be 100 ppm/degreesC (or better). The (See Datasheet)", 5 VO SENSE (in) "The sense input allows the regulation circuit to compensate for voltage drop between the module and the load. For optimal voltage accuracy Vo Sense should be connected to Vout. It can also be left disconnected.", 6 VO (power) "The regulated positive power output with respect to the GND node.", 7 GND (power) "This is the common ground connection for the Vin and Vout power connections. It is also the 0 VDC reference for the control inputs.", 8 TRACK (in) "This is an analog control input that enables the output voltage to follow an external voltage. This pin becomes active typically 20 ms after the input voltage has been applied, and allows direct control of the output voltage (See Datasheet)", 9 ~{MARGIN DOWN} (in) "When this input is asserted to GND, the output voltage is decreased by 5% from the nominal. The input requires an open-collector (open-drain) interface. It is not TTL compatible. A lower percent change can be accomodated (See Datasheet)", 10 ~{MARGIN UP} (in) "When this input is asserted to GND, the output voltage is increased by 5%. The input requires an open-collector (open-drain) interface. It is not TTL compatible. The percent change can be reduced with a series resistor. If (See Datasheet)"

## PTH12010LAZT
designator U?
0.8 to 1.8 V, 12 A, 12 V Input Non-Isolated Wide Adjust Module, -40 to 85 degC, 10-pin Module (EUJ10), Pb-Free (RoHS); Manufacturer: Texas Instruments; PartNumber: PTH12010LAZT; Iout(Max)(A): 12; Regulated Outputs(#): 1; SubFamily: Non-Isolated POL; Vin(Max)(V): 13.2; VO Adjustable: TRUE; Vout(Max)(V): 1.8; Vout(Min)(V): 0.8; DatasheetVersion: SLTS205G; PackageVersion: 4204985-3/E; PackageReference: EUJ10; PackageDescription: 10-Pin Plastic Special Shape, Body 15.75 x 34.8 mm; Supplier 1: Digi-Key; Supplier Part Number 1: PTH12010LAZT-ND; Supplier 2: Newark; Supplier Part Number 2: 37K0737; Supplier 3: Mouser; Supplier Part Number 3: 595-PTH12010LAZT; Eco-Plan: Pb-Free (RoHS); Vin(Min)(V): 13.2; Mounting Technology: Surface Mount; ComponentLink1Description: Manufacturer URL; ComponentLink1URL: http://www.ti.com/; ComponentLink2Description: Datasheet; ComponentLink2URL: http://www.ti.com/general/docs/lit/getliterature.tsp?genericPartNumber=PTH12010L&fileType=pdf; ComponentLink3Description: Package Specification; ComponentLink3URL: http://www.ti.com/lit/ml/mpds136d/mpds136d.pdf; ComponentLink4Description: URL Link1; ComponentLink4URL: Samples URL:http://www.ti.com/product/pth12010l#samples
footprint TI-EUJ10_V (10-Leads Double Sided Module, Body 34.8x15.75mm)
pins: 1 GND (power) "This is the common ground connection for the Vin and Vout power connections. It is also the 0 VDC reference for the control inputs.", 2 VI (power) "The positive input voltage power node to the module, which is referenced to common GND.", 3 ~{INHIBIT} (in) "The Inhibit pin is an open-collector/drain negative logic input that is referenced to GND. Applying a lowlevel ground signal to this input disables the module’s output and turns off the output voltage. When the Inhibit (See Datasheet)", 4 VO ADJUST (in) "A 0.1 W 1 % resistor must be directly connected between this pin and pin 7 (GND) to set the output voltage to a value higher than 0.8 V. The temperature stability of the resistor should be 100 ppm/degreesC (or better). The (See Datasheet)", 5 VO SENSE (in) "The sense input allows the regulation circuit to compensate for voltage drop between the module and the load. For optimal voltage accuracy Vo Sense should be connected to Vout. It can also be left disconnected.", 6 VO (power) "The regulated positive power output with respect to the GND node.", 7 GND (power) "This is the common ground connection for the Vin and Vout power connections. It is also the 0 VDC reference for the control inputs.", 8 TRACK (in) "This is an analog control input that enables the output voltage to follow an external voltage. This pin becomes active typically 20 ms after the input voltage has been applied, and allows direct control of the output voltage (See Datasheet)", 9 ~{MARGIN DOWN} (in) "When this input is asserted to GND, the output voltage is decreased by 5% from the nominal. The input requires an open-collector (open-drain) interface. It is not TTL compatible. A lower percent change can be accomodated (See Datasheet)", 10 ~{MARGIN UP} (in) "When this input is asserted to GND, the output voltage is increased by 5%. The input requires an open-collector (open-drain) interface. It is not TTL compatible. The percent change can be reduced with a series resistor. If (See Datasheet)"

## PTH12010WAH
designator U?
1.2 to 5.5 V, 12 A, 12 V Input Non-Isolated Wide Adjust Module, -40 to 85 degC, 10-pin Module (EUH10), Pb-Free (RoHS); Manufacturer: Texas Instruments; PartNumber: PTH12010WAH; Iout(Max)(A): 12; Regulated Outputs(#): 1; SubFamily: Non-Isolated POL; Vin(Max)(V): 13.2; Vin(Min)(V): 10.8; VO Adjustable: TRUE; Vout(Max)(V): 5.5; Vout(Min)(V): 1.2; DatasheetVersion: SLTS205G; PackageVersion: 4204984-3/E; PackageReference: EUH10; PackageDescription: 10-Pin Plastic Special Shape, Body 15.75 x 34.8 mm; Supplier 1: Digi-Key; Supplier Part Number 1: 296-20454-ND; Supplier 2: Farnell; Supplier Part Number 2: 1212260; Supplier 3: Newark; Supplier Part Number 3: 83H8348; Supplier 4: Mouser; Supplier Part Number 4: 595-PTH12010WAH; Eco-Plan: Pb-Free (RoHS); Mounting Technology: Through Hole; ComponentLink1Description: Manufacturer URL; ComponentLink1URL: http://www.ti.com/; ComponentLink2Description: Datasheet; ComponentLink2URL: http://www.ti.com/general/docs/lit/getliterature.tsp?genericPartNumber=PTH12010W&fileType=pdf; ComponentLink3Description: Package Specification; ComponentLink3URL: http://www.ti.com/litv/pdf/mpds130d; ComponentLink4Description: URL Link1; ComponentLink4URL: Samples URL:http://www.ti.com/product/pth12010w#samples
footprint TI-EUH10_V (Module, 10-Leads, Body 34.8x15.75 mm)
pins: 1 GND (power) "This is the common ground connection for the Vin and Vout power connections. It is also the 0 VDC reference for the control inputs.", 2 VI (power) "The positive input voltage power node to the module, which is referenced to common GND.", 3 ~{INHIBIT} (in) "The Inhibit pin is an open-collector/drain negative logic input that is referenced to GND. Applying a lowlevel ground signal to this input disables the module’s output and turns off the output voltage. When the Inhibit (See Datasheet)", 4 VO ADJUST (in) "A 1% resistor must be connected directly between this pin and GND (pin 7) to set the output voltage of the module higher than its lowest value. The temperature stability of the resistor should be 100 ppm/degreesC (or better).(See Datasheet)", 5 VO SENSE (in) "The sense input allows the regulation circuit to compensate for voltage drop between the module and the load. For optimal voltage accuracy Vo Sense should be connected to Vout. It can also be left disconnected.", 6 VO (power) "The regulated positive power output with respect to the GND node.", 7 GND (power) "This is the common ground connection for the Vin and Vout power connections. It is also the 0 VDC reference for the control inputs.", 8 TRACK (in) "This is an analog control input that enables the output voltage to follow an external voltage. This pin becomes active typically 20 ms after the input voltage has been applied, and allows direct control of the output voltage (See Datasheet)", 9 ~{MARGIN DOWN} (in) "When this input is asserted to GND, the output voltage is decreased by 5% from the nominal. The input requires an open-collector (open-drain) interface. It is not TTL compatible. A lower percent change can be accomodated (See Datasheet)", 10 ~{MARGIN UP} (in) "When this input is asserted to GND, the output voltage is increased by 5%. The input requires an open-collector (open-drain) interface. It is not TTL compatible. The percent change can be reduced with a series resistor. For (See Datasheet)"